# EAGLE library part LP2951-N (library My_TI)
LP2951-N Series of Adjustable Micropower Voltage Regulators • Input Voltage Range: 2.3 V to 30 V • 5-V, 3-V, and 3.3-V Output Voltage Versions Available • High Accuracy Output Voltage Datashet <http://www.ti.com/lit/ds/symlink/lp2951-n.pdf>
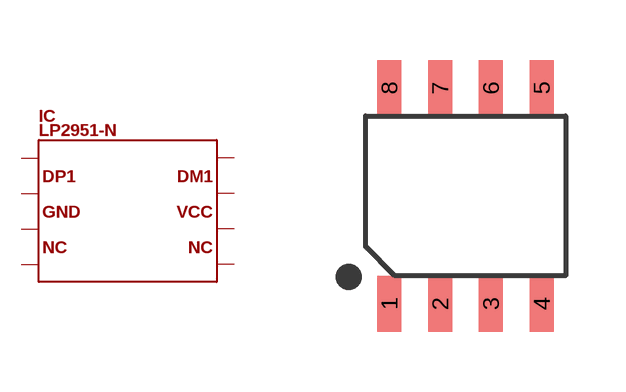
[diagram p67: symbol with the pads of SOIC8-1.27-5X4MM; footprint SOIC8-1.27-5X4MM]

Designator prefix IC

## LP2951-N  [SOIC8-1.27-5X4MM]
1  P$1
2  P$2
3  P$3
4  P$4
5  P$5
6  P$6
7  P$7
8  P$8

## Footprint SOIC8-1.27-5X4MM (pad centres in mm)
smd 0.6 x 1.4: 1 -1.905,-2.7; 2 -0.635,-2.7; 3 0.635,-2.7; 4 1.905,-2.7; 5 1.905,2.7; 6 0.635,2.7; 7 -0.635,2.7; 8 -1.905,2.7